# EAGLE library part SIM900 (library BaseApp)
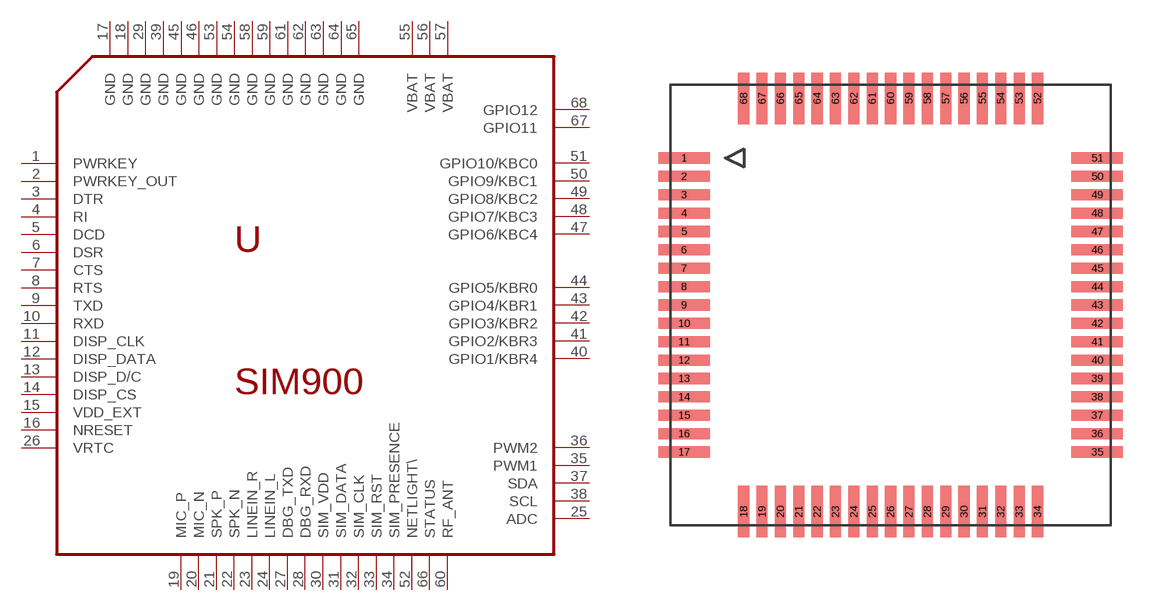
[diagram p38: symbol with the pads of SIM900; footprint SIM900]

Designator prefix -

## SIM900  [SIM900]
1  PWRKEY
2  PWRKEY_OUT
3  DTR
4  RI
5  DCD
6  DSR
7  CTS
8  RTS
9  TXD
10  RXD
11  DISP_CLK
12  DISP_DATA
13  DISP_D/C
14  DISP_CS
15  VDD_EXT
16  NRESET
17  GND  pwr
18  GND  pwr
19  MIC_P
20  MIC_N
21  SPK_P
22  SPK_N
23  LINEIN_R
24  LINEIN_L
25  ADC
26  VRTC
27  DBG_TXD
28  DBG_RXD
29  GND  pwr
30  SIM_VDD
31  SIM_DATA
32  SIM_CLK
33  SIM_RST
34  SIM_PRESENCE
35  PWM1
36  PWM2
37  SDA
38  SCL
39  GND  pwr
40  GPIO1/KBR4
41  GPIO2/KBR3
42  GPIO3/KBR2
43  GPIO4/KBR1
44  GPIO5/KBR0
45  GND  pwr
46  GND  pwr
47  GPIO6/KBC4
48  GPIO7/KBC3
49  GPIO8/KBC2
50  GPIO9/KBC1
51  GPIO10/KBC0
52  NETLIGHT\
53  GND  pwr
54  GND  pwr
55  VBAT  pwr
56  VBAT  pwr
57  VBAT  pwr
58  GND  pwr
59  GND  pwr
60  RF_ANT
61  GND  pwr
62  GND  pwr
63  GND  pwr
64  GND  pwr
65  GND  pwr
66  STATUS
67  GPIO11
68  GPIO12

## Footprint SIM900 (pad centres in mm)
smd 2.8 x 0.6: 1 -11.25,6.73; 2 -11.25,5.73; 3 -11.25,4.73; 4 -11.25,3.73; 5 -11.25,2.73; 6 -11.25,1.73; 7 -11.25,0.73; 8 -11.25,-0.27; 9 -11.25,-1.27; 10 -11.25,-2.27; 11 -11.25,-3.27; 12 -11.25,-4.27; 13 -11.25,-5.27; 14 -11.25,-6.27; 15 -11.25,-7.27; 16 -11.25,-8.27; 17 -11.25,-9.27; 35 11.25,-9.27; 36 11.25,-8.27; 37 11.25,-7.27; 38 11.25,-6.27; 39 11.25,-5.27; 40 11.25,-4.27; 41 11.25,-3.27; 42 11.25,-2.27; 43 11.25,-1.27; 44 11.25,-0.27; 45 11.25,0.73; 46 11.25,1.73; 47 11.25,2.73; 48 11.25,3.73; 49 11.25,4.73; 50 11.25,5.73; 51 11.25,6.73
smd 0.6 x 2.8: 18 -8,-12.52; 19 -7,-12.52; 20 -6,-12.52; 21 -5,-12.52; 22 -4,-12.52; 23 -3,-12.52; 24 -2,-12.52; 25 -1,-12.52; 26 0,-12.52; 27 1,-12.52; 28 2,-12.52; 29 3,-12.52; 30 4,-12.52; 31 5,-12.52; 32 6,-12.52; 33 7,-12.52; 34 8,-12.52; 52 8,9.98; 53 7,9.98; 54 6,9.98; 55 5,9.98; 56 4,9.98; 57 3,9.98; 58 2,9.98; 59 1,9.98; 60 0,9.98; 61 -1,9.98; 62 -2,9.98; 63 -3,9.98; 64 -4,9.98; 65 -5,9.98; 66 -6,9.98; 67 -7,9.98; 68 -8,9.98